# Altium footprint library PcbLib1.PcbLib: 4 footprints
Each footprint in its own frame and in the unit in brackets; x right, y up, seen from the top. Pads: shape width x height; smd on the part's side, far side on the other; paste and mask are expansions set on the pad; w line width, h text height; cw(c..) or ccw(c..) is an arc to the next point about the centre after c.
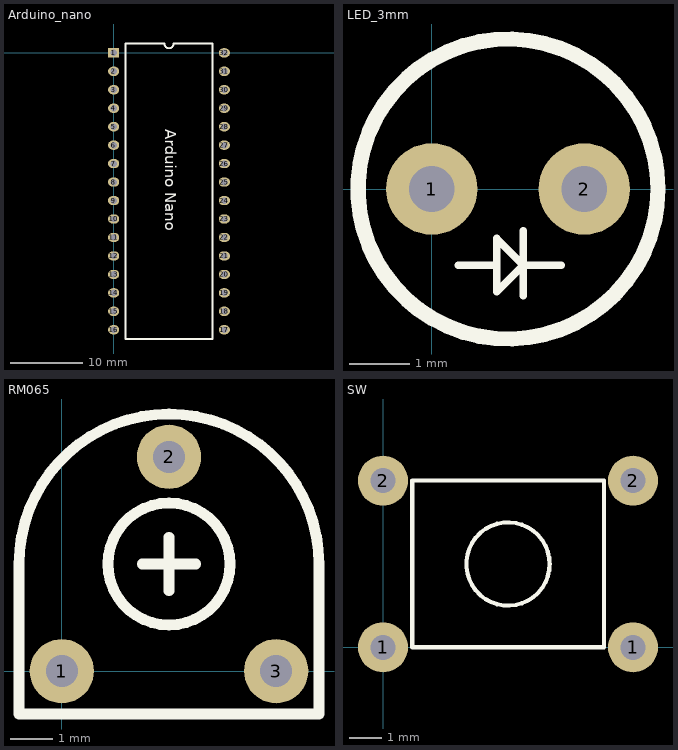
[diagram p0: the footprints below, top view; thin cyan lines are the x and y axes]

## Arduino_nano [mil]
pads (32):
  rect 60x50 / inner rect 100x50 / far side rect 60x50 hole 35: 1(0,0)
  oval 60x50 / inner oval 100x50 / far side oval 60x50 hole 35: 2(0,-100) 3(0,-200) 4(0,-300) 5(0,-400) 6(0,-500) 7(0,-600) 8(0,-700) 9(0,-800) 10(0,-900) 11(0,-1000) 12(0,-1100) 13(0,-1200) 14(0,-1300) 15(0,-1400) 16(0,-1500) 17(600,-1500) 18(600,-1400) 19(600,-1300) 20(600,-1200) 21(600,-1100) 22(600,-1000) 23(600,-900) 24(600,-800) 25(600,-700) 26(600,-600) 27(600,-500) 28(600,-400) 29(600,-300) 30(600,-200) 31(600,-100) 32(600,0)
Top Overlay:
  lines w10: 65,-1550 65,50 275,50 ccw(c300,50) 325,50 535,50 535,-1550 65,-1550
  text "Arduino Nano" at 280,-415 h60

## LED_3mm [mil]
height 212.6
pads (2):
  round 60 hole 30: 1(0,0) 2(100,0)
Top Overlay:
  circle w10: c50,0 r98.43
  lines w5: 17.5,-50 42.5,-50 ; 60,-70 60,-27.5 ; 85,-50 60,-50 ; 60,-50 42.5,-32.5 42.5,-67.5 60,-50

## RM065 [mil]
pads (3):
  round 60 hole 30: 1(0,0) 2(100,200) 3(200,0)
Top Overlay:
  circle w10: c100,100 r57.01
  lines w10: 75,100 125,100 ; 100,75 100,125 ; -40,-40 -40,100 cw(c100,100) 240,100 240,-40 -40,-40

## SW [mil]
pads (4):
  round 60 hole 30: 1(0,0) 1(300,0) 2(0,200) 2(300,200)
Top Overlay:
  circle w5: c150,100 r50
  lines w5: 35,0 265,0 265,200 35,200 35,0